# Altium footprint library MSP430F5438A.PcbLib: 11 footprints
Each footprint in its own frame and in the unit in brackets; x right, y up, seen from the top. Pads: shape width x height; smd on the part's side, far side on the other; paste and mask are expansions set on the pad; w line width, h text height; cw(c..) or ccw(c..) is an arc to the next point about the centre after c.
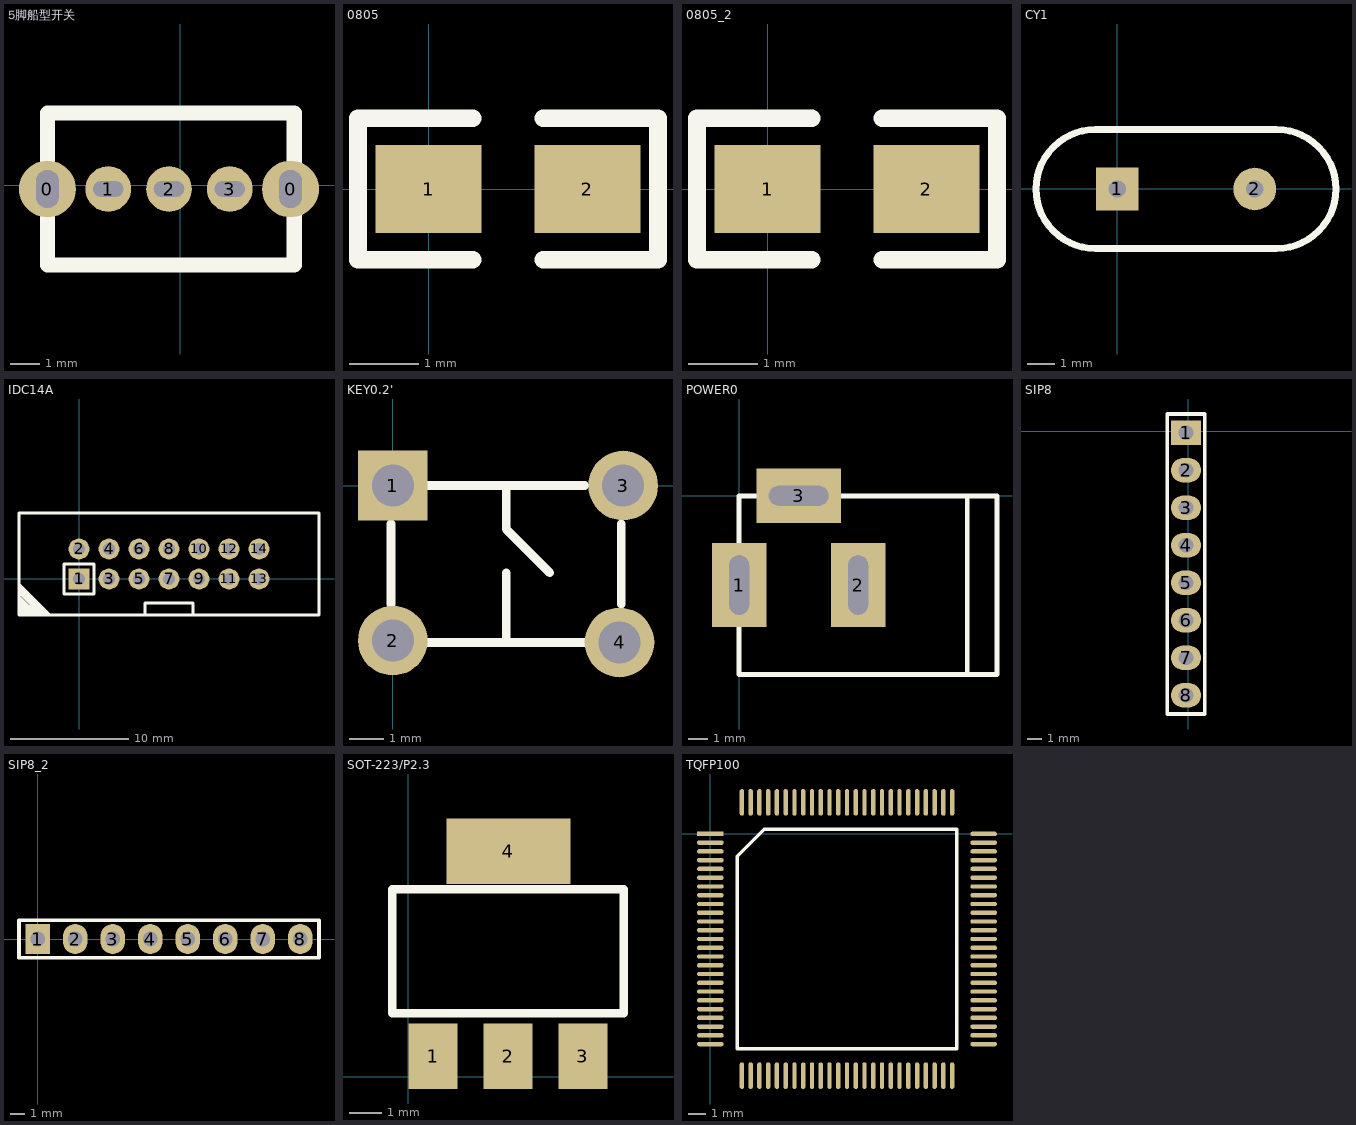
[diagram p0: the footprints below, top view; thin cyan lines are the x and y axes]

## 5脚船型开关 [mil]
height 100
pads (5):
  round 75 hole 30 slot 50 at 90 deg: 0(-175,-5) 0(145,-5)
  round 60 hole 20 slot 40 at 0 deg: 1(-95,-5) 2(-15,-5) 3(65,-5)
Top Overlay:
  lines w20: -175,-105 -175,95 150,95 150,-105 -175,-105

## 0805 [mil]
height 78.74
pads (2):
  rect 60x50 smd: 1(0,0) 2(90,0)
Top Overlay:
  lines w10: 25,-40 -40,-40 -40,40 25,40 ; 65,-40 130,-40 130,40 65,40

## 0805_2 [mil]
pads (2):
  rect 60x50 smd: 1(0,0) 2(90,0)
Top Overlay:
  lines w10: 25,-40 -40,-40 -40,40 25,40 ; 65,-40 130,-40 130,40 65,40

## CY1 [mil]
height 68.9
pads (2):
  rect 62x62 hole 25: 1(0,0)
  round 62 hole 25: 2(200,0)
Top Overlay:
  lines w10: -118.11,0 ccw(c-31.5,0) -31.5,-86.61 231.5,-86.61 ccw(c231.5,0) 318.11,0 ccw(c231.5,0) 231.5,86.61 -31.5,86.61 ccw(c-31.5,0) -118.11,0

## IDC14A [mil]
pads (14):
  rect 70x70 hole 40: 1(0,0)
  round 70 hole 40: 2(0,100) 3(100,0) 4(100,100) 5(200,0) 6(200,100) 7(300,0) 8(300,100) 9(400,0) 10(400,100) 11(500,0) 12(500,100) 13(600,0) 14(600,100)
Top Overlay:
  lines w10: -200,-104 -184,-120 ; -200,-70 -150,-120 ; -200,-58 -139,-119 ; -200,-45 -125,-120 ; -200,-21 -101,-120 ; -199,-35 -114,-120 ; -199,-18 -97,-120 ; -197,-96 -173,-120 ; -197,-85 -162,-120 ; 220,-120 220,-80 ; 220,-110 220,-80 ; 380,-120 380,-80 220,-80 ; -200,-120 700,-120 800,-120 800,220 700,220 -200,220 -200,-120 ; -50,-50 50,-50 50,50 -50,50 -50,-50

## KEY0.2' [mm]
height 1.75
pads (4):
  rect 2x2 hole 1.2: 1(0,0)
  round 2 hole 1.2: 2(0,-4.445) 3(6.604,0) 4(6.5,-4.5)
Top Overlay:
  lines w0.254: -0.052,-3.393 -0.052,-1.107 ; 1,-4.5 5.5,-4.5 ; 1,0 5.5,0 ; 3.25,-4.5 3.25,-2.5 ; 3.25,0 3.25,-1.25 4.5,-2.5 ; 6.552,-3.393 6.552,-1.107

## POWER0 [mil]
height 68.9
pads (3):
  rect 110x170 hole 40 slot 120 at 90 deg: 1(0,-180) 2(240,-180)
  rect 170x110 hole 40 slot 120 at 0 deg: 3(120,0)
Top Overlay:
  lines w10: 460,-360 460,0 ; 0,-360 520,-360 520,0 0,0 0,-360

## SIP8 [mil]
height 78.74
pads (8):
  rect 80x65 / inner rect 0x0 / far side rect 80x65 hole 39: 1(-6,-4)
  oval 80x65 / inner round 0 / far side oval 80x65 hole 39: 2(-6,-104) 3(-6,-204) 4(-6,-304) 5(-6,-404) 6(-6,-504) 7(-6,-604) 8(-6,-704)
Top Overlay:
  lines w10: -56,-754 44,-754 44,46 -56,46 -56,-754

## SIP8_2 [mil]
pads (8):
  rect 65x80 hole 39: 1(0,0)
  oval 65x80 hole 39: 2(100,0) 3(200,0) 4(300,0) 5(400,0) 6(500,0) 7(600,0) 8(700,0)
Top Overlay:
  lines w10: -50,-50 -50,50 750,50 750,-50 -50,-50

## SOT-223/P2.3 [mil]
height 68.9
pads (4):
  rect 59x79 smd: 1(30,25) 2(120.55,25) 3(211.1,25)
  rect 150x79 smd: 4(121,273)
Top Overlay:
  lines w10: -19.45,77 260.55,77 260.55,227 -19.45,227 -19.45,77

## TQFP100 [mm]
pads (100):
  rect 1.524x0.25 smd: 1(0,0)
  oval 1.524x0.25 smd: 2(0,-0.5) 3(0,-1) 4(0,-1.5) 5(0,-2) 6(0,-2.5) 7(0,-3) 8(0,-3.5) 9(0,-4) 10(0,-4.5) 11(0,-5) 12(0,-5.5) 13(0,-6) 14(0,-6.5) 15(0,-7) 16(0,-7.5) 17(0,-8) 18(0,-8.5) 19(0,-9) 20(0,-9.5) 21(0,-10) 22(0,-10.5) 23(0,-11) 24(0,-11.5) 25(0,-12) 51(15.6,-12) 52(15.6,-11.5) 53(15.6,-11) 54(15.6,-10.5) 55(15.6,-10) 56(15.6,-9.5) 57(15.6,-9) 58(15.6,-8.5) 59(15.6,-8) 60(15.6,-7.5) 61(15.6,-7) 62(15.6,-6.5) 63(15.6,-6) 64(15.6,-5.5) 65(15.6,-5) 66(15.6,-4.5) 67(15.6,-4) 68(15.6,-3.5) 69(15.6,-3) 70(15.6,-2.5) 71(15.6,-2) 72(15.6,-1.5) 73(15.6,-1) 74(15.6,-0.5) 75(15.6,0)
  oval 0.25x1.524 smd: 26(1.8,-13.8) 27(2.3,-13.8) 28(2.8,-13.8) 29(3.3,-13.8) 30(3.8,-13.8) 31(4.3,-13.8) 32(4.8,-13.8) 33(5.3,-13.8) 34(5.8,-13.8) 35(6.3,-13.8) 36(6.8,-13.8) 37(7.3,-13.8) 38(7.8,-13.8) 39(8.3,-13.8) 40(8.8,-13.8) 41(9.3,-13.8) 42(9.8,-13.8) 43(10.3,-13.8) 44(10.8,-13.8) 45(11.3,-13.8) 46(11.8,-13.8) 47(12.3,-13.8) 48(12.8,-13.8) 49(13.3,-13.8) 50(13.8,-13.8) 76(13.8,1.8) 77(13.3,1.8) 78(12.8,1.8) 79(12.3,1.8) 80(11.8,1.8) 81(11.3,1.8) 82(10.8,1.8) 83(10.3,1.8) 84(9.8,1.8) 85(9.3,1.8) 86(8.8,1.8) 87(8.3,1.8) 88(7.8,1.8) 89(7.3,1.8) 90(6.8,1.8) 91(6.3,1.8) 92(5.8,1.8) 93(5.3,1.8) 94(4.8,1.8) 95(4.3,1.8) 96(3.8,1.8) 97(3.3,1.8) 98(2.8,1.8) 99(2.3,1.8) 100(1.8,1.8)
Top Overlay:
  lines w0.2: 1.535,-12.265 1.535,-1.27 3.07,0.265 14.065,0.265 14.065,-12.265 1.535,-12.265